# Altium footprint library Connectors.PcbLib: 3 footprints
Each footprint in its own frame and in the unit in brackets; x right, y up, seen from the top. Pads: shape width x height; smd on the part's side, far side on the other; paste and mask are expansions set on the pad; w line width, h text height; cw(c..) or ccw(c..) is an arc to the next point about the centre after c.
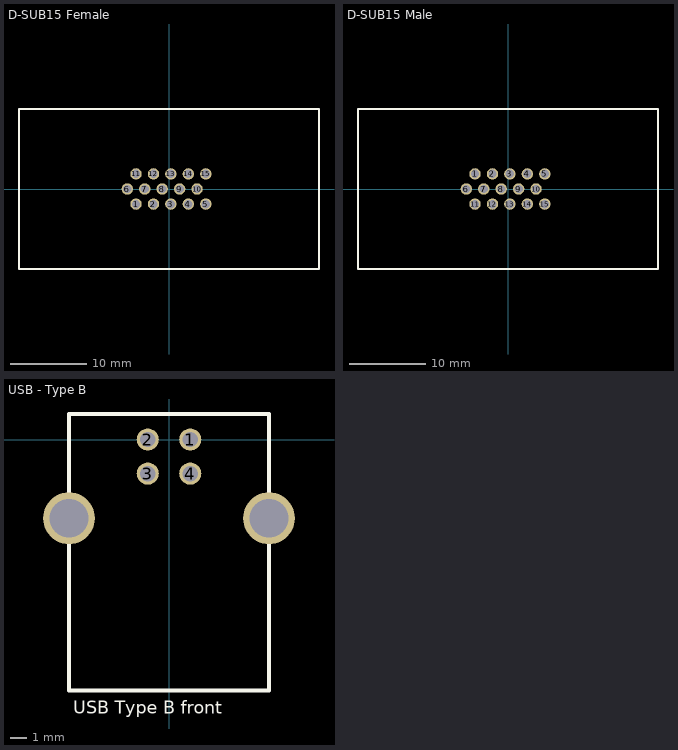
[diagram p0: the footprints below, top view; thin cyan lines are the x and y axes]

## D-SUB15 Female [mm]
pads (15):
  round 1.5 hole 1.1: 1(-4.33,-1.98) 2(-2.04,-1.98) 3(0.25,-1.98) 4(2.54,-1.98) 5(4.83,-1.98) 6(-5.475,0) 7(-3.185,0) 8(-0.895,0) 9(1.395,0) 10(3.685,0) 11(-4.33,1.98) 12(-2.04,1.98) 13(0.25,1.98) 14(2.54,1.98) 15(4.83,1.98)
Top Overlay:
  lines w0.254: -19.7,-10.5 19.7,-10.5 19.7,10.5 -19.7,10.5 -19.7,-10.5
3D body: height 13, standoff -3.75, extent -19.685,-10.414 19.715,10.586

## D-SUB15 Male [mm]
pads (15):
  round 1.5 hole 1.1: 1(-4.33,1.98) 2(-2.04,1.98) 3(0.25,1.98) 4(2.54,1.98) 5(4.83,1.98) 6(-5.475,0) 7(-3.185,0) 8(-0.895,0) 9(1.395,0) 10(3.685,0) 11(-4.33,-1.98) 12(-2.04,-1.98) 13(0.25,-1.98) 14(2.54,-1.98) 15(4.83,-1.98)
Top Overlay:
  lines w0.254: -19.7,-10.5 19.7,-10.5 19.7,10.5 -19.7,10.5 -19.7,-10.5
3D body: height 13, standoff -3.75, extent -19.685,-10.414 19.715,10.586

## USB - Type B [mm] "Through Hole, Right Angle, Horizontal"
pads (6):
  round 1.32 hole 0.92: 1(1.27,0) 2(-1.27,0) 3(-1.27,-2.032) 4(1.27,-2.032)
  round 3.1 hole 2.3: ""(-5.969,-4.699) ""(5.969,-4.699)
Top Overlay:
  lines w0.254: -5.969,-14.986 -5.969,1.524 5.969,1.524 5.969,-14.986 -5.969,-14.986
  text "USB Type B front" at -5.715,-16.383 h0.76
3D body: height 10.8, standoff 0, extent -6.096,-15.113 6.096,1.651